# Altium footprint library CR2032.PcbLib: 1 footprints
Each footprint in its own frame and in the unit in brackets; x right, y up, seen from the top. Pads: shape width x height; smd on the part's side, far side on the other; paste and mask are expansions set on the pad; w line width, h text height; cw(c..) or ccw(c..) is an arc to the next point about the centre after c.
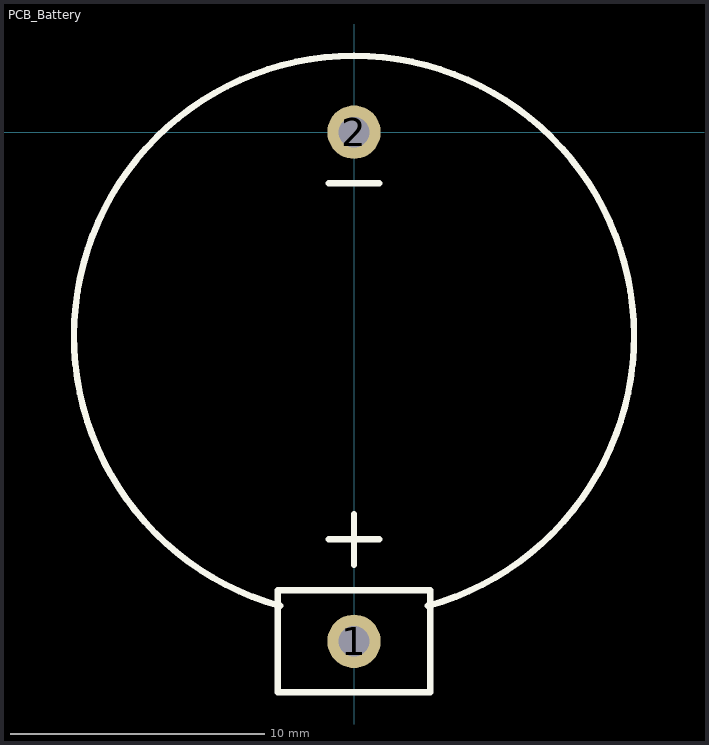
[diagram p0: the footprint, top view; thin cyan lines are the x and y axes]

## PCB_Battery [mm] "Cell Holder for CR2032"
pads (2):
  round 2.1 hole 1.2: 1(0,-20) 2(0,0)
Top Overlay:
  lines w0.254: -2.894,-18.612 cw(c0,-8) 2.894,-18.612 ; -1,-16 1,-16 ; -1,-2 1,-2 ; 0,-17 0,-15 ; -3,-22 3,-22 3,-18 -3,-18 -3,-22
3D body "CR2032 v1.step": height 7.5, standoff -4.5, extent -10.85,-21.7 10.85,2.5